# EAGLE library part TPS768XX-EP (library TPS768xx-EP)
TPS768xx-EP 1 Ampere low-dropout voltage regulator
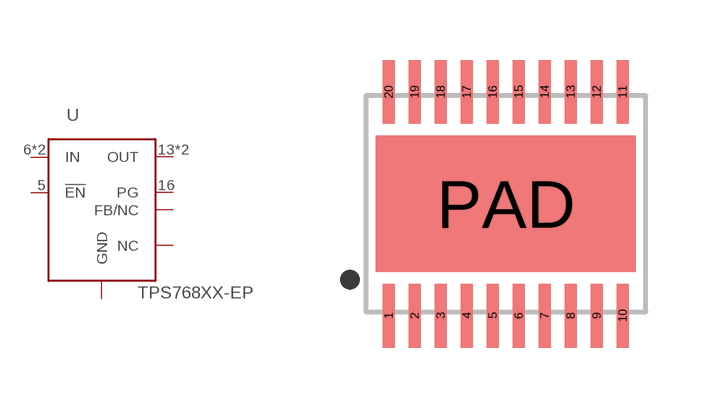
[diagram p0: symbol with the pads of TSSOP-20-PWP; footprint TSSOP-20-PWP]

Designator prefix U

## TPS768XX-EP  [TSSOP-20-PWP]
1  GND
2  GND
3  GND
4  NC  nc
5  !EN!  in
6  IN  in
7  IN  in
8  NC  nc
9  GND
10  GND
11  GND
12  GND
13  OUT  out
14  OUT  out
15  FB/NC
16  PG
17  NC  nc
18  NC  nc
19  GND
20  GND
PAD  GND

## Footprint TSSOP-20-PWP (pad centres in mm)
TSSOP-20 PWP package
smd 0.3 x 1.6: 1 -2.925,-2.8; 2 -2.275,-2.8; 3 -1.625,-2.8; 4 -0.975,-2.8; 5 -0.325,-2.8; 6 0.325,-2.8; 7 0.975,-2.8; 8 1.625,-2.8; 9 2.275,-2.8; 10 2.925,-2.8; 11 2.925,2.8; 12 2.275,2.8; 13 1.625,2.8; 14 0.975,2.8; 15 0.325,2.8; 16 -0.325,2.8; 17 -0.975,2.8; 18 -1.625,2.8; 19 -2.275,2.8; 20 -2.925,2.8
smd 6.5 x 3.4: PAD 0,0